# Altium footprint library FFC2B3510T.PcbLib: 1 footprints
Each footprint in its own frame and in the unit in brackets; x right, y up, seen from the top. Pads: shape width x height; smd on the part's side, far side on the other; paste and mask are expansions set on the pad; w line width, h text height; cw(c..) or ccw(c..) is an arc to the next point about the centre after c.
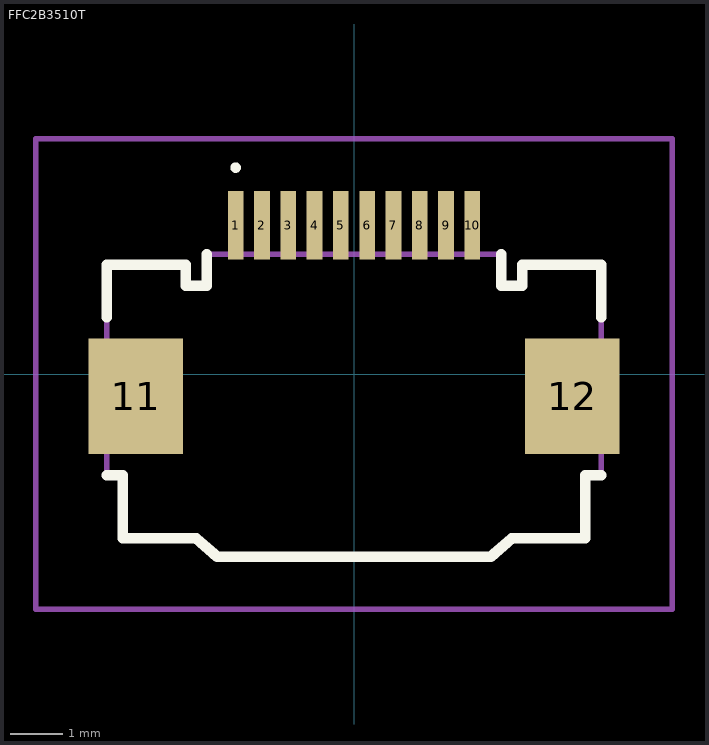
[diagram p0: the footprint, top view; thin cyan lines are the x and y axes]

## FFC2B3510T [mm]
pads (12):
  rect 0.3x1.3 smd: 1(-2.25,2.825) 2(-1.75,2.825) 3(-1.25,2.825) 4(-0.75,2.825) 5(-0.25,2.825) 6(0.25,2.825) 7(0.75,2.825) 8(1.25,2.825) 9(1.75,2.825) 10(2.25,2.825)
  rect 1.8x2.2 smd: 11(-4.15,-0.425) 12(4.15,-0.425)
Top Overlay:
  lines w0.1: -2.25,3.875 -2.25,3.875 ; -2.25,3.875 ccw(c-2.25,3.925) -2.25,3.975 ; -2.25,3.875 cw(c-2.25,3.925) -2.25,3.975 ; -2.25,3.975 -2.25,3.975
  lines w0.2: -4.7,-1.925 -4.4,-1.925 -4.4,-3.125 -3,-3.125 -2.6,-3.475 2.6,-3.475 3,-3.125 4.4,-3.125 4.4,-1.925 4.7,-1.925 ; -4.7,1.075 -4.7,2.075 -3.2,2.075 -3.2,1.675 -2.8,1.675 -2.8,2.275 ; 2.8,2.275 2.8,1.675 3.2,1.675 3.2,2.075 4.7,2.075 4.7,1.075
Mechanical 15:
  lines w0.1: 2.8,1.675 2.8,2.275 0,2.275 -2.8,2.275 -2.8,1.675 -3.2,1.675 -3.2,2.075 -4.7,2.075 -4.7,-1.925 -4.4,-1.925 -4.4,-3.125 -3,-3.125 -2.6,-3.475 2.6,-3.475 3,-3.125 4.4,-3.125 4.4,-1.925 4.7,-1.925 4.7,2.075 3.2,2.075 3.2,1.675 2.8,1.675 ; 2.8,1.675 2.8,1.675
Mechanical 20:
  lines w0.1: -6.05,-4.475 6.05,-4.475 6.05,4.475 -6.05,4.475 -6.05,-4.475